# EAGLE library part ICS874001I-02 (library ICS874001)
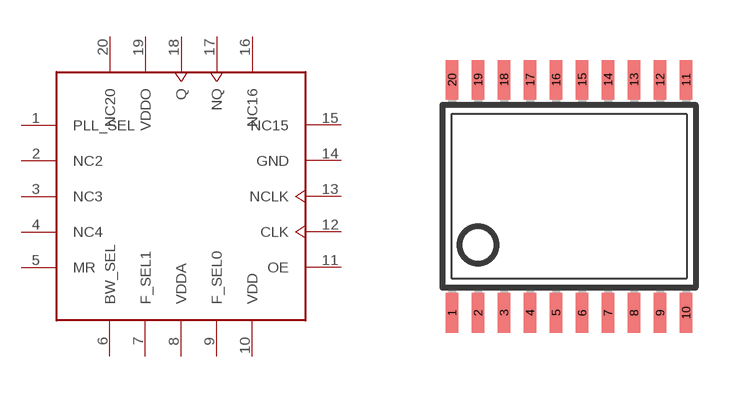
[diagram p0: symbol with the pads of TSSOP20; footprint TSSOP20]

Designator prefix -

## ICS874001I-02  [TSSOP20]
1  PLL_SEL  in
2  NC2  nc
3  NC3  nc
4  NC4  nc
5  MR  in
6  BW_SEL  in
7  F_SEL1  in
8  VDDA  pwr
9  F_SEL0  in
10  VDD  pwr
11  OE  in
12  CLK  in
13  NCLK  in
14  GND  pwr
15  NC15  nc
16  NC16  nc
17  NQ  out
18  Q  out
19  VDDO  pwr
20  NC20  nc

## Footprint TSSOP20 (pad centres in mm)
Thin Shrink Small Outline Plastic 20
smd 0.305 x 0.991: 1 -2.925,-2.918; 2 -2.275,-2.918; 3 -1.625,-2.918; 4 -0.975,-2.918; 5 -0.325,-2.918; 6 0.325,-2.918; 7 0.975,-2.918; 8 1.625,-2.918; 9 2.275,-2.918; 10 2.925,-2.918; 11 2.925,2.918; 12 2.275,2.918; 13 1.625,2.918; 14 0.975,2.918; 15 0.325,2.918; 16 -0.325,2.918; 17 -0.975,2.918; 18 -1.625,2.918; 19 -2.275,2.918; 20 -2.925,2.918